# Altium integrated library TI Data Converters Digital to Analog Converter.IntLib: 1533 symbols (part 52 of 99)
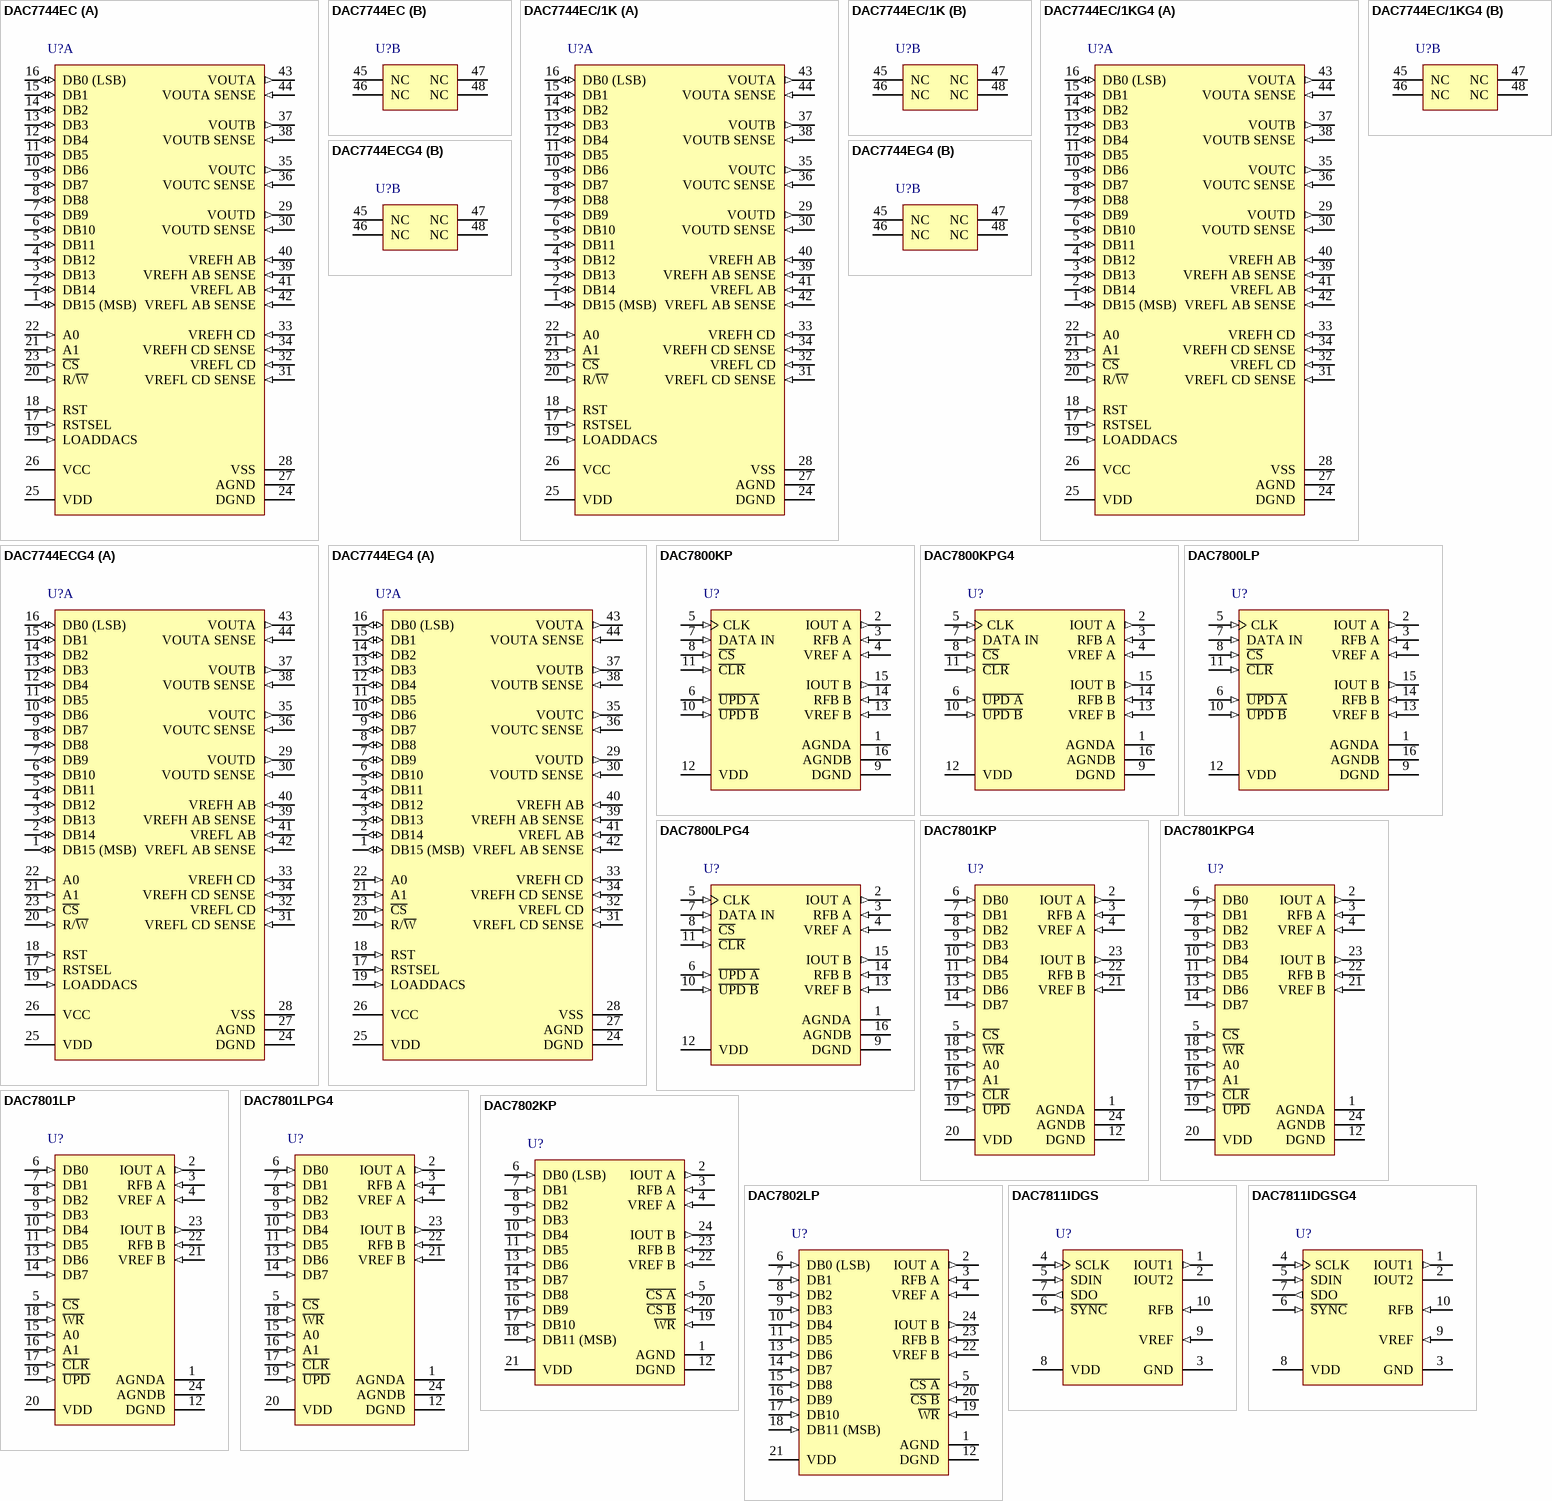
[diagram p124: symbols DAC7744EC to DAC7811IDGSG4]

## DAC7744ECG4
designator U?
16-Bit, Quad Voltage Output DAC, -40 to 85 degC, 48-pin SOP (DL48), Green (RoHS & no Sb/Br); Manufacturer: Texas Instruments; PartNumber: DAC7744ECG4; DAC Channels: 4; DNL(Max)(+/-LSB): 1; INL(Max)(+/-LSB): 2; Interface: Parallel; Resolution(Bits): 16; Settling Time(us): 10; SubFamily: Precision DAC (=<10MSPS); DatasheetVersion: SBAS120; PackageVersion: 4040048/E, 12/2001; PackageReference: DL48; PackageDescription: 48-Pin Plastic Small Outline, Body 7.49 x 15.88 mm, Pitch 0.635 mm; Supplier 1: Digi-Key; Supplier Part Number 1: DAC7744ECG4-ND; Supplier 2: Mouser; Supplier Part Number 2: 595-DAC7744ECG4; Eco-Plan: Green (RoHS & no Sb/Br); Mounting Technology: Surface Mount; Code_JEDEC: MO-118; ComponentLink1Description: Manufacturer URL; ComponentLink1URL: http://www.ti.com/; ComponentLink2Description: Datasheet; ComponentLink2URL: http://www.ti.com/general/docs/lit/getliterature.tsp?genericPartNumber=DAC7744&fileType=pdf; ComponentLink3Description: Package Specification; ComponentLink3URL: http://www.ti.com/lit/ml/msso001c/msso001c.pdf
footprint TI-DL48_N (SOP, 48-Leads, Body 15.88x7.49mm, Pitch 0.635mm, IPC Medium Density)
footprint TI-DL48_L (SOP, 48-Leads, Body 15.88x7.49mm, Pitch 0.635mm, IPC High Density)
footprint TI-DL48_M (SOP, 48-Leads, Body 15.88x7.49mm, Pitch 0.635mm, IPC Low Density)
part A pins: 1 DB15 (MSB) (io) "Data Bit 15, MSB", 2 DB14 (io) "Data Bit 14", 3 DB13 (io) "Data Bit 13", 4 DB12 (io) "Data Bit 12", 5 DB11 (io) "Data Bit 11", 6 DB10 (io) "Data Bit 10", 7 DB9 (io) "Data Bit 9", 8 DB8 (io) "Data Bit 8", 9 DB7 (io) "Data Bit 7", 10 DB6 (io) "Data Bit 6", 11 DB5 (io) "Data Bit 5", 12 DB4 (io) "Data Bit 4", 13 DB3 (io) "Data Bit 3", 14 DB2 (io) "Data Bit 2", 15 DB1 (io) "Data Bit 1", 16 DB0 (LSB) (io) "Data Bit 0, LSB", 17 RSTSEL (in) "Reset Select. Determines the action of RST. If HIGH, a RST command will set the DAC registers to mid-scale. If LOW, a RST command will set the DAC registers to zero.", 18 RST (in) "Reset, Rising Edge Triggered. Depending on the state of RSTSEL, the DAC registers are set to either mid-scale or zero.", 19 LOADDACS (in) "DAC Output Registers Load Control. Rising edge triggered.", 20 R/~{W} (in) "Enabled by the C\S\, Controls Data Read and Write from the Input Registers.", 21 A1 (in) "Enabled by the C\S\, in Combination With A0 Selects the Individual DAC Input Registers.", 22 A0 (in) "Enabled by the C\S\, in Combination With A1 Selects the Individual DAC Input Registers.", 23 ~{CS} (in) "Chip Select. Active LOW.", 24 DGND (power) "Digital Ground", 25 VDD (power) "Positive Power Supply (digital)", 26 VCC (power) "Positive Power Supply (analog)", 27 AGND (power) "Analog Ground", 28 VSS (power) "Negative Power Supply", 29 VOUTD (out) "DAC D Voltage Output", 30 VOUTD SENSE (in) "DAC D’s Output Amplifier Inverting Input. Used to close the feedback loop at the load.", 31 VREFL CD SENSE (in) "DAC C and D Reference Low Sense Input", 32 VREFL CD (in) "DAC C and D Reference Low Input", 33 VREFH CD (in) "DAC C and D Reference High Input", 34 VREFH CD SENSE (in) "DAC C and D Reference High Sense Input", 35 VOUTC (out) "DAC C Voltage Output", 36 VOUTC SENSE (in) "DAC C’s Output Amplifier Inverting Input. Used to close the feedback loop at the load.", 37 VOUTB (out) "DAC B Voltage Output", 38 VOUTB SENSE (in) "DAC B’s Output Amplifier Inverting Input. Used to close the feedback loop at the load.", 39 VREFH AB SENSE (in) "DAC A and B Reference High Sense Input", 40 VREFH AB (in) "DAC A and B Reference High Input", 41 VREFL AB (in) "DAC A and B Reference Low Input", 42 VREFL AB SENSE (in) "DAC A and B Reference Low Sense Input", 43 VOUTA (out) "DAC A Voltage Output", 44 VOUTA SENSE (in) "DAC A’s Output Amplifier Inverting Input. Used to close the feedback loop at the load."
part B pins: 45 NC "No Connection", 46 NC "No Connection", 47 NC "No Connection", 48 NC "No Connection"

## DAC7744EG4
designator U?
16-Bit, Quad Voltage Output DAC, -40 to 85 degC, 48-pin SOP (DL48), Green (RoHS & no Sb/Br); Manufacturer: Texas Instruments; PartNumber: DAC7744EG4; DAC Channels: 4; DNL(Max)(+/-LSB): 3; Interface: Parallel; Resolution(Bits): 16; Settling Time(us): 10; SubFamily: Precision DAC (=<10MSPS); DatasheetVersion: SBAS120; PackageVersion: 4040048/E, 12/2001; PackageReference: DL48; PackageDescription: 48-Pin Plastic Small Outline, Body 7.49 x 15.88 mm, Pitch 0.635 mm; Supplier 1: Digi-Key; Supplier Part Number 1: DAC7744EG4-ND; Supplier 2: Farnell; Supplier Part Number 2: 1214361; Supplier 3: Mouser; Supplier Part Number 3: 595-DAC7744EG4; Eco-Plan: Green (RoHS & no Sb/Br); INL(Max)(+/-LSB): 3; Mounting Technology: Surface Mount; Code_JEDEC: MO-118; ComponentLink1Description: Manufacturer URL; ComponentLink1URL: http://www.ti.com/; ComponentLink2Description: Datasheet; ComponentLink2URL: http://www.ti.com/general/docs/lit/getliterature.tsp?genericPartNumber=DAC7744&fileType=pdf; ComponentLink3Description: Package Specification; ComponentLink3URL: http://www.ti.com/lit/ml/msso001c/msso001c.pdf
footprint TI-DL48_N (SOP, 48-Leads, Body 15.88x7.49mm, Pitch 0.635mm, IPC Medium Density)
footprint TI-DL48_L (SOP, 48-Leads, Body 15.88x7.49mm, Pitch 0.635mm, IPC High Density)
footprint TI-DL48_M (SOP, 48-Leads, Body 15.88x7.49mm, Pitch 0.635mm, IPC Low Density)
part A pins: 1 DB15 (MSB) (io) "Data Bit 15, MSB", 2 DB14 (io) "Data Bit 14", 3 DB13 (io) "Data Bit 13", 4 DB12 (io) "Data Bit 12", 5 DB11 (io) "Data Bit 11", 6 DB10 (io) "Data Bit 10", 7 DB9 (io) "Data Bit 9", 8 DB8 (io) "Data Bit 8", 9 DB7 (io) "Data Bit 7", 10 DB6 (io) "Data Bit 6", 11 DB5 (io) "Data Bit 5", 12 DB4 (io) "Data Bit 4", 13 DB3 (io) "Data Bit 3", 14 DB2 (io) "Data Bit 2", 15 DB1 (io) "Data Bit 1", 16 DB0 (LSB) (io) "Data Bit 0, LSB", 17 RSTSEL (in) "Reset Select. Determines the action of RST. If HIGH, a RST command will set the DAC registers to mid-scale. If LOW, a RST command will set the DAC registers to zero.", 18 RST (in) "Reset, Rising Edge Triggered. Depending on the state of RSTSEL, the DAC registers are set to either mid-scale or zero.", 19 LOADDACS (in) "DAC Output Registers Load Control. Rising edge triggered.", 20 R/~{W} (in) "Enabled by the C\S\, Controls Data Read and Write from the Input Registers.", 21 A1 (in) "Enabled by the C\S\, in Combination With A0 Selects the Individual DAC Input Registers.", 22 A0 (in) "Enabled by the C\S\, in Combination With A1 Selects the Individual DAC Input Registers.", 23 ~{CS} (in) "Chip Select. Active LOW.", 24 DGND (power) "Digital Ground", 25 VDD (power) "Positive Power Supply (digital)", 26 VCC (power) "Positive Power Supply (analog)", 27 AGND (power) "Analog Ground", 28 VSS (power) "Negative Power Supply", 29 VOUTD (out) "DAC D Voltage Output", 30 VOUTD SENSE (in) "DAC D’s Output Amplifier Inverting Input. Used to close the feedback loop at the load.", 31 VREFL CD SENSE (in) "DAC C and D Reference Low Sense Input", 32 VREFL CD (in) "DAC C and D Reference Low Input", 33 VREFH CD (in) "DAC C and D Reference High Input", 34 VREFH CD SENSE (in) "DAC C and D Reference High Sense Input", 35 VOUTC (out) "DAC C Voltage Output", 36 VOUTC SENSE (in) "DAC C’s Output Amplifier Inverting Input. Used to close the feedback loop at the load.", 37 VOUTB (out) "DAC B Voltage Output", 38 VOUTB SENSE (in) "DAC B’s Output Amplifier Inverting Input. Used to close the feedback loop at the load.", 39 VREFH AB SENSE (in) "DAC A and B Reference High Sense Input", 40 VREFH AB (in) "DAC A and B Reference High Input", 41 VREFL AB (in) "DAC A and B Reference Low Input", 42 VREFL AB SENSE (in) "DAC A and B Reference Low Sense Input", 43 VOUTA (out) "DAC A Voltage Output", 44 VOUTA SENSE (in) "DAC A’s Output Amplifier Inverting Input. Used to close the feedback loop at the load."
part B pins: 45 NC "No Connection", 46 NC "No Connection", 47 NC "No Connection", 48 NC "No Connection"

## DAC7800KP
designator U?
Dual Monolithic CMOS 12-Bit Multiplying DAC, -40 to 85 degC, 16-pin DIP (N16), Green (RoHS & no Sb/Br); Manufacturer: Texas Instruments; PartNumber: DAC7800KP; DAC Channels: 2; DNL(Max)(+/-LSB): 1; Interface: Serial SPI; Resolution(Bits): 12; Settling Time(us): 0.8; SubFamily: Precision DAC (=<10MSPS); DatasheetVersion: SBAS005B; PackageVersion: 4040049/E, 12/2002; PackageReference: N16; PackageDescription: 16-Pin Plastic In-Line, Body 19.305 x 6.35 mm, Pitch 2.54 mm; Supplier 1: Digi-Key; Supplier Part Number 1: 296-33258-5-ND; Supplier 2: Mouser; Supplier Part Number 2: 595-DAC7800KP; Eco-Plan: Green (RoHS & no Sb/Br); INL(Max)(+/-LSB): 1; Power Consumption(Typ)(mW): 1; Mounting Technology: Through Hole; Code_JEDEC: MS-001; ComponentLink1Description: Manufacturer URL; ComponentLink1URL: http://www.ti.com/; ComponentLink2Description: Datasheet; ComponentLink2URL: http://www.ti.com/general/docs/lit/getliterature.tsp?genericPartNumber=DAC7800&fileType=pdf; ComponentLink3Description: Package Specification; ComponentLink3URL: http://www.ti.com/litv/pdf/mpdi002c
footprint TI-N16 (DIP, 16-Leads, Body 19.305x6.35mm, Pitch 2.54mm)
pins: 1 AGNDA (power), 2 IOUT A (out), 3 RFB A (in), 4 VREF A (in), 5 CLK (in), 6 ~{UPD A} (in), 7 DATA IN (in), 8 ~{CS} (in), 9 DGND (power), 10 ~{UPD B} (in), 11 ~{CLR} (in), 12 VDD (power), 13 VREF B (in), 14 RFB B (in), 15 IOUT B (out), 16 AGNDB (power)

## DAC7800KPG4
designator U?
Dual Monolithic CMOS 12-Bit Multiplying DAC, -40 to 85 degC, 16-pin DIP (N16), Green (RoHS & no Sb/Br); Manufacturer: Texas Instruments; PartNumber: DAC7800KPG4; DAC Channels: 2; DNL(Max)(+/-LSB): 1; Interface: Serial SPI; Resolution(Bits): 12; Settling Time(us): 0.8; SubFamily: Precision DAC (=<10MSPS); DatasheetVersion: SBAS005B; PackageVersion: 4040049/E, 12/2002; PackageReference: N16; PackageDescription: 16-Pin Plastic In-Line, Body 19.305 x 6.35 mm, Pitch 2.54 mm; Supplier 1: Digi-Key; Supplier Part Number 1: DAC7800KPG4-ND; Supplier 2: Newark; Supplier Part Number 2: 20M5083; Supplier 3: Mouser; Supplier Part Number 3: 595-DAC7800KPG4; Eco-Plan: Green (RoHS & no Sb/Br); INL(Max)(+/-LSB): 1; Power Consumption(Typ)(mW): 1; Mounting Technology: Through Hole; Code_JEDEC: MS-001; ComponentLink1Description: Manufacturer URL; ComponentLink1URL: http://www.ti.com/; ComponentLink2Description: Datasheet; ComponentLink2URL: http://www.ti.com/general/docs/lit/getliterature.tsp?genericPartNumber=DAC7800&fileType=pdf; ComponentLink3Description: Package Specification; ComponentLink3URL: http://www.ti.com/litv/pdf/mpdi002c
footprint TI-N16 (DIP, 16-Leads, Body 19.305x6.35mm, Pitch 2.54mm)
pins: 1 AGNDA (power), 2 IOUT A (out), 3 RFB A (in), 4 VREF A (in), 5 CLK (in), 6 ~{UPD A} (in), 7 DATA IN (in), 8 ~{CS} (in), 9 DGND (power), 10 ~{UPD B} (in), 11 ~{CLR} (in), 12 VDD (power), 13 VREF B (in), 14 RFB B (in), 15 IOUT B (out), 16 AGNDB (power)

## DAC7800LP
designator U?
Dual Monolithic CMOS 12-Bit Multiplying DAC, -40 to 85 degC, 16-pin DIP (N16), Green (RoHS & no Sb/Br); Manufacturer: Texas Instruments; PartNumber: DAC7800LP; DAC Channels: 2; DNL(Max)(+/-LSB): 1; INL(Max)(+/-LSB): 0.5; Interface: Serial SPI; Resolution(Bits): 12; Settling Time(us): 0.8; SubFamily: Precision DAC (=<10MSPS); DatasheetVersion: SBAS005B; PackageVersion: 4040049/E, 12/2002; PackageReference: N16; PackageDescription: 16-Pin Plastic In-Line, Body 19.305 x 6.35 mm, Pitch 2.54 mm; Supplier 1: Digi-Key; Supplier Part Number 1: 296-33259-5-ND; Supplier 2: Mouser; Supplier Part Number 2: 595-DAC7800LP; Eco-Plan: Green (RoHS & no Sb/Br); Power Consumption(Typ)(mW): 1; Mounting Technology: Through Hole; Code_JEDEC: MS-001; ComponentLink1Description: Manufacturer URL; ComponentLink1URL: http://www.ti.com/; ComponentLink2Description: Datasheet; ComponentLink2URL: http://www.ti.com/general/docs/lit/getliterature.tsp?genericPartNumber=DAC7800&fileType=pdf; ComponentLink3Description: Package Specification; ComponentLink3URL: http://www.ti.com/litv/pdf/mpdi002c
footprint TI-N16 (DIP, 16-Leads, Body 19.305x6.35mm, Pitch 2.54mm)
pins: 1 AGNDA (power), 2 IOUT A (out), 3 RFB A (in), 4 VREF A (in), 5 CLK (in), 6 ~{UPD A} (in), 7 DATA IN (in), 8 ~{CS} (in), 9 DGND (power), 10 ~{UPD B} (in), 11 ~{CLR} (in), 12 VDD (power), 13 VREF B (in), 14 RFB B (in), 15 IOUT B (out), 16 AGNDB (power)

## DAC7800LPG4
designator U?
Dual Monolithic CMOS 12-Bit Multiplying DAC, -40 to 85 degC, 16-pin DIP (N16), Green (RoHS & no Sb/Br); Manufacturer: Texas Instruments; PartNumber: DAC7800LPG4; DAC Channels: 2; DNL(Max)(+/-LSB): 1; INL(Max)(+/-LSB): 0.5; Interface: Serial SPI; Resolution(Bits): 12; Settling Time(us): 0.8; SubFamily: Precision DAC (=<10MSPS); DatasheetVersion: SBAS005B; PackageVersion: 4040049/E, 12/2002; PackageReference: N16; PackageDescription: 16-Pin Plastic In-Line, Body 19.305 x 6.35 mm, Pitch 2.54 mm; Supplier 1: Digi-Key; Supplier Part Number 1: DAC7800LPG4-ND; Supplier 2: Newark; Supplier Part Number 2: 99K1851; Supplier 3: Mouser; Supplier Part Number 3: 595-DAC7800LPG4; Eco-Plan: Green (RoHS & no Sb/Br); Power Consumption(Typ)(mW): 1; Mounting Technology: Through Hole; Code_JEDEC: MS-001; ComponentLink1Description: Manufacturer URL; ComponentLink1URL: http://www.ti.com/; ComponentLink2Description: Datasheet; ComponentLink2URL: http://www.ti.com/general/docs/lit/getliterature.tsp?genericPartNumber=DAC7800&fileType=pdf; ComponentLink3Description: Package Specification; ComponentLink3URL: http://www.ti.com/litv/pdf/mpdi002c
footprint TI-N16 (DIP, 16-Leads, Body 19.305x6.35mm, Pitch 2.54mm)
pins: 1 AGNDA (power), 2 IOUT A (out), 3 RFB A (in), 4 VREF A (in), 5 CLK (in), 6 ~{UPD A} (in), 7 DATA IN (in), 8 ~{CS} (in), 9 DGND (power), 10 ~{UPD B} (in), 11 ~{CLR} (in), 12 VDD (power), 13 VREF B (in), 14 RFB B (in), 15 IOUT B (out), 16 AGNDB (power)

## DAC7801KP
designator U?
Dual Monolithic CMOS 12-Bit Multiplying DAC, -40 to 85 degC, 24-pin DIP (NT24), Green (RoHS & no Sb/Br); Manufacturer: Texas Instruments; PartNumber: DAC7801KP; DAC Channels: 2; DNL(Max)(+/-LSB): 1; Interface: Parallel; Resolution(Bits): 12; Settling Time(us): 0.8; SubFamily: Precision DAC (=<10MSPS); DatasheetVersion: SBAS005B; PackageVersion: 4040050/C, 04/2009; PackageReference: NT24; PackageDescription: 24-Pin Plastic Dual-In-Line Package, Body 31.64 x 6.73 mm, Pitch 2.54 mm; Supplier 1: Digi-Key; Supplier Part Number 1: DAC7801KP-ND; Supplier 2: Mouser; Supplier Part Number 2: 595-DAC7801KP; Eco-Plan: Green (RoHS & no Sb/Br); INL(Max)(+/-LSB): 1; Power Consumption(Typ)(mW): 1; Mounting Technology: Through Hole; ComponentLink1Description: Manufacturer URL; ComponentLink1URL: http://www.ti.com/; ComponentLink2Description: Datasheet; ComponentLink2URL: http://www.ti.com/general/docs/lit/getliterature.tsp?genericPartNumber=DAC7801&fileType=pdf; ComponentLink3Description: Package Specification; ComponentLink3URL: http://www.ti.com/litv/pdf/mpdi004a
footprint TI-NT24 (DIP, 24-Leads, Body 31.64x6.73mm, Pitch 2.54mm)
pins: 1 AGNDA (power), 2 IOUT A (out), 3 RFB A (in), 4 VREF A (in), 5 ~{CS} (in), 6 DB0 (in), 7 DB1 (in), 8 DB2 (in), 9 DB3 (in), 10 DB4 (in), 11 DB5 (in), 12 DGND (power), 13 DB6 (in), 14 DB7 (in), 15 A0 (in), 16 A1 (in), 17 ~{CLR} (in), 18 ~{WR} (in), 19 ~{UPD} (in), 20 VDD (power), 21 VREF B (in), 22 RFB B (in), 23 IOUT B (out), 24 AGNDB (power)

## DAC7801KPG4
designator U?
Dual Monolithic CMOS 12-Bit Multiplying DAC, -40 to 85 degC, 24-pin DIP (NT24), Green (RoHS & no Sb/Br); Manufacturer: Texas Instruments; PartNumber: DAC7801KPG4; DAC Channels: 2; DNL(Max)(+/-LSB): 1; Interface: Parallel; Resolution(Bits): 12; Settling Time(us): 0.8; SubFamily: Precision DAC (=<10MSPS); DatasheetVersion: SBAS005B; PackageVersion: 4040050/C, 04/2009; PackageReference: NT24; PackageDescription: 24-Pin Plastic Dual-In-Line Package, Body 31.64 x 6.73 mm, Pitch 2.54 mm; Supplier 1: Digi-Key; Supplier Part Number 1: DAC7801KPG4-ND; Supplier 2: Newark; Supplier Part Number 2: 03M7554; Supplier 3: Mouser; Supplier Part Number 3: 595-DAC7801KPG4; Eco-Plan: Green (RoHS & no Sb/Br); INL(Max)(+/-LSB): 1; Power Consumption(Typ)(mW): 1; Mounting Technology: Through Hole; ComponentLink1Description: Manufacturer URL; ComponentLink1URL: http://www.ti.com/; ComponentLink2Description: Datasheet; ComponentLink2URL: http://www.ti.com/general/docs/lit/getliterature.tsp?genericPartNumber=DAC7801&fileType=pdf; ComponentLink3Description: Package Specification; ComponentLink3URL: http://www.ti.com/litv/pdf/mpdi004a
footprint TI-NT24 (DIP, 24-Leads, Body 31.64x6.73mm, Pitch 2.54mm)
pins: 1 AGNDA (power), 2 IOUT A (out), 3 RFB A (in), 4 VREF A (in), 5 ~{CS} (in), 6 DB0 (in), 7 DB1 (in), 8 DB2 (in), 9 DB3 (in), 10 DB4 (in), 11 DB5 (in), 12 DGND (power), 13 DB6 (in), 14 DB7 (in), 15 A0 (in), 16 A1 (in), 17 ~{CLR} (in), 18 ~{WR} (in), 19 ~{UPD} (in), 20 VDD (power), 21 VREF B (in), 22 RFB B (in), 23 IOUT B (out), 24 AGNDB (power)

## DAC7801LP
designator U?
Dual Monolithic CMOS 12-Bit Multiplying DAC, -40 to 85 degC, 24-pin DIP (NT24), Green (RoHS & no Sb/Br); Manufacturer: Texas Instruments; PartNumber: DAC7801LP; DAC Channels: 2; DNL(Max)(+/-LSB): 1; INL(Max)(+/-LSB): 0.5; Interface: Parallel; Resolution(Bits): 12; Settling Time(us): 0.8; SubFamily: Precision DAC (=<10MSPS); DatasheetVersion: SBAS005B; PackageVersion: 4040050/C, 04/2009; PackageReference: NT24; PackageDescription: 24-Pin Plastic Dual-In-Line Package, Body 31.64 x 6.73 mm, Pitch 2.54 mm; Supplier 1: Digi-Key; Supplier Part Number 1: DAC7801LP-ND; Supplier 2: Mouser; Supplier Part Number 2: 595-DAC7801LP; Eco-Plan: Green (RoHS & no Sb/Br); Power Consumption(Typ)(mW): 1; Mounting Technology: Through Hole; ComponentLink1Description: Manufacturer URL; ComponentLink1URL: http://www.ti.com/; ComponentLink2Description: Datasheet; ComponentLink2URL: http://www.ti.com/general/docs/lit/getliterature.tsp?genericPartNumber=DAC7801&fileType=pdf; ComponentLink3Description: Package Specification; ComponentLink3URL: http://www.ti.com/litv/pdf/mpdi004a
footprint TI-NT24 (DIP, 24-Leads, Body 31.64x6.73mm, Pitch 2.54mm)
pins: 1 AGNDA (power), 2 IOUT A (out), 3 RFB A (in), 4 VREF A (in), 5 ~{CS} (in), 6 DB0 (in), 7 DB1 (in), 8 DB2 (in), 9 DB3 (in), 10 DB4 (in), 11 DB5 (in), 12 DGND (power), 13 DB6 (in), 14 DB7 (in), 15 A0 (in), 16 A1 (in), 17 ~{CLR} (in), 18 ~{WR} (in), 19 ~{UPD} (in), 20 VDD (power), 21 VREF B (in), 22 RFB B (in), 23 IOUT B (out), 24 AGNDB (power)

## DAC7801LPG4
designator U?
Dual Monolithic CMOS 12-Bit Multiplying DAC, -40 to 85 degC, 24-pin DIP (NT24), Green (RoHS & no Sb/Br); Manufacturer: Texas Instruments; PartNumber: DAC7801LPG4; DAC Channels: 2; DNL(Max)(+/-LSB): 1; INL(Max)(+/-LSB): 0.5; Interface: Parallel; Resolution(Bits): 12; Settling Time(us): 0.8; SubFamily: Precision DAC (=<10MSPS); DatasheetVersion: SBAS005B; PackageVersion: 4040050/C, 04/2009; PackageReference: NT24; PackageDescription: 24-Pin Plastic Dual-In-Line Package, Body 31.64 x 6.73 mm, Pitch 2.54 mm; Supplier 1: Digi-Key; Supplier Part Number 1: DAC7801LPG4-ND; Supplier 2: Newark; Supplier Part Number 2: 34P3669; Supplier 3: Mouser; Supplier Part Number 3: 595-DAC7801LPG4; Eco-Plan: Green (RoHS & no Sb/Br); Power Consumption(Typ)(mW): 1; Mounting Technology: Through Hole; ComponentLink1Description: Manufacturer URL; ComponentLink1URL: http://www.ti.com/; ComponentLink2Description: Datasheet; ComponentLink2URL: http://www.ti.com/general/docs/lit/getliterature.tsp?genericPartNumber=DAC7801&fileType=pdf; ComponentLink3Description: Package Specification; ComponentLink3URL: http://www.ti.com/litv/pdf/mpdi004a
footprint TI-NT24 (DIP, 24-Leads, Body 31.64x6.73mm, Pitch 2.54mm)
pins: 1 AGNDA (power), 2 IOUT A (out), 3 RFB A (in), 4 VREF A (in), 5 ~{CS} (in), 6 DB0 (in), 7 DB1 (in), 8 DB2 (in), 9 DB3 (in), 10 DB4 (in), 11 DB5 (in), 12 DGND (power), 13 DB6 (in), 14 DB7 (in), 15 A0 (in), 16 A1 (in), 17 ~{CLR} (in), 18 ~{WR} (in), 19 ~{UPD} (in), 20 VDD (power), 21 VREF B (in), 22 RFB B (in), 23 IOUT B (out), 24 AGNDB (power)

## DAC7802KP
designator U?
Dual Monolithic CMOS 12-Bit Multiplying DAC, -40 to 85 degC, 24-pin DIP (NTG24), Green (RoHS & no Sb/Br); Manufacturer: Texas Instruments; PartNumber: DAC7802KP; DAC Channels: 2; DNL(Max)(+/-LSB): 1; Interface: Parallel; Resolution(Bits): 12; Settling Time(us): 0.8; SubFamily: Precision DAC (=<10MSPS); DatasheetVersion: SBAS005B; PackageVersion: 4202642/C, 04/2008; PackageReference: NTG24; PackageDescription: 24-Pin Plastic Dual-In-Line, Body 30.7 x 6.605 mm, Pitch 2.54 mm; Supplier 1: Digi-Key; Supplier Part Number 1: 296-33260-5-ND; Supplier 2: Farnell; Supplier Part Number 2: 1460240; Supplier 3: Newark; Supplier Part Number 3: 14M8161; Supplier 4: Newark; Supplier Part Number 4: 61M5750; Supplier 5: Mouser; Supplier Part Number 5: 595-DAC7802KP; Eco-Plan: Green (RoHS & no Sb/Br); INL(Max)(+/-LSB): 1; Power Consumption(Typ)(mW): 1; Mounting Technology: Through Hole; ComponentLink1Description: Manufacturer URL; ComponentLink1URL: http://www.ti.com/; ComponentLink2Description: Datasheet; ComponentLink2URL: http://www.ti.com/general/docs/lit/getliterature.tsp?genericPartNumber=DAC7802&fileType=pdf; ComponentLink3Description: Package Specification; ComponentLink3URL: http://www.ti.com/lit/ml/mpdi066b/mpdi066b.pdf
footprint TI-NTG24 (DIP, 24-Leads, Body 30.7x6.605mm, Pitch 2.54mm)
pins: 1 AGND (power), 2 IOUT A (out), 3 RFB A (in), 4 VREF A (in), 5 ~{CS A} (in), 6 DB0 (LSB) (in), 7 DB1 (in), 8 DB2 (in), 9 DB3 (in), 10 DB4 (in), 11 DB5 (in), 12 DGND (power), 13 DB6 (in), 14 DB7 (in), 15 DB8 (in), 16 DB9 (in), 17 DB10 (in), 18 DB11 (MSB) (in), 19 ~{WR} (in), 20 ~{CS B} (in), 21 VDD (power), 22 VREF B (in), 23 RFB B (in), 24 IOUT B (out)

## DAC7802LP
designator U?
Dual Monolithic CMOS 12-Bit Multiplying DAC, -40 to 85 degC, 24-pin DIP (NTG24), Green (RoHS & no Sb/Br); Manufacturer: Texas Instruments; PartNumber: DAC7802LP; DAC Channels: 2; DNL(Max)(+/-LSB): 1; INL(Max)(+/-LSB): 0.5; Interface: Parallel; Resolution(Bits): 12; Settling Time(us): 0.8; SubFamily: Precision DAC (=<10MSPS); DatasheetVersion: SBAS005B; PackageVersion: 4202642/C, 04/2008; PackageReference: NTG24; PackageDescription: 24-Pin Plastic Dual-In-Line, Body 30.7 x 6.605 mm, Pitch 2.54 mm; Supplier 1: Digi-Key; Supplier Part Number 1: DAC7802LP-ND; Supplier 2: Mouser; Supplier Part Number 2: 595-DAC7802LP; Eco-Plan: Green (RoHS & no Sb/Br); Power Consumption(Typ)(mW): 1; Mounting Technology: Through Hole; ComponentLink1Description: Manufacturer URL; ComponentLink1URL: http://www.ti.com/; ComponentLink2Description: Datasheet; ComponentLink2URL: http://www.ti.com/general/docs/lit/getliterature.tsp?genericPartNumber=DAC7802&fileType=pdf; ComponentLink3Description: Package Specification; ComponentLink3URL: http://www.ti.com/lit/ml/mpdi066b/mpdi066b.pdf
footprint TI-NTG24 (DIP, 24-Leads, Body 30.7x6.605mm, Pitch 2.54mm)
pins: 1 AGND (power), 2 IOUT A (out), 3 RFB A (in), 4 VREF A (in), 5 ~{CS A} (in), 6 DB0 (LSB) (in), 7 DB1 (in), 8 DB2 (in), 9 DB3 (in), 10 DB4 (in), 11 DB5 (in), 12 DGND (power), 13 DB6 (in), 14 DB7 (in), 15 DB8 (in), 16 DB9 (in), 17 DB10 (in), 18 DB11 (MSB) (in), 19 ~{WR} (in), 20 ~{CS B} (in), 21 VDD (power), 22 VREF B (in), 23 RFB B (in), 24 IOUT B (out)

## DAC7811IDGS
designator U?
12-Bit, Serial Input, Multiplying DAC, -40 to 125 degC, 10-pin SOP (DGS10), Green (RoHS & no Sb/Br); Manufacturer: Texas Instruments; PartNumber: DAC7811IDGS; DAC Channels: 1; Interface: Serial SPI; Power Consumption(Typ)(mW): 0.025; Resolution(Bits): 12; Settling Time(us): 0.2; SubFamily: Precision DAC (=<10MSPS); DatasheetVersion: SBAS337C; PackageVersion: 4073272/C, 02/2004; PackageReference: DGS10; PackageDescription: 10-Pin Plastic Small Outline, Body 3 x 3 mm, Pitch 0.5 mm; Supplier 1: Digi-Key; Supplier Part Number 1: 296-33261-5-ND; Supplier 2: Mouser; Supplier Part Number 2: 595-DAC7811IDGS; DNL(Max)(+/-LSB): 1; Eco-Plan: Green (RoHS & no Sb/Br); INL(Max)(+/-LSB): 1; Mounting Technology: Surface Mount; Code_JEDEC: MO-153; ComponentLink1Description: Manufacturer URL; ComponentLink1URL: http://www.ti.com/; ComponentLink2Description: Datasheet; ComponentLink2URL: http://www.ti.com/general/docs/lit/getliterature.tsp?genericPartNumber=DAC7811&fileType=pdf; ComponentLink3Description: Package Specification; ComponentLink3URL: http://www.ti.com/lit/ml/mpds035b/mpds035b.pdf
footprint TI-DGS10_N (SOP, 10-Leads, Body 3x3mm, Pitch 0.5mm, IPC Medium Density)
footprint TI-DGS10_L (SOP, 10-Leads, Body 3x3mm, Pitch 0.5mm, IPC High Density)
footprint TI-DGS10_M (SOP, 10-Leads, Body 3x3mm, Pitch 0.5mm, IPC Low Density)
pins: 1 IOUT1 (out) "DAC Current Output", 2 IOUT2 "DAC Analog Ground. This pin is normally tied to the analog ground of the system.", 3 GND (power) "Ground pin.", 4 SCLK (in) "Serial Clock Input. By default, data is clocked into the input shift register on the falling edge of the serial clock input. Alternatively, by means of the serial control bits, the device may be configured such that data is (See Datasheet)", 5 SDIN (in) "Serial Data Input. Data is clocked into the 16-bit input register on the active edge of the serial clock input. By default, on power-up, data is clocked into the shift register on the falling edge of SCLK. The control bits (See Datasheet)", 6 ~{SYNC} (in) "Active Low Control Input. This is the frame synchronization signal for the input data. When S\Y\N\C\ goes low, it powers on the SCLK and DIN buffers, and the input shift register is enabled. Data is loaded to the shift (See Datasheet)", 7 SDO (out) "Serial Data Output. This allows a number of parts to be daisy-chained. By default, data is clocked into the shift alternate edge to loading data to the shift register. Writing the Readback control word to the shift register (See Datasheet)", 8 VDD (power) "Positive Power Supply Input. These parts can be operated from a supply of 2.7V to 5.5V.", 9 VREF (in) "DAC Reference Voltage Input", 10 RFB (in) "DAC Feedback Resistor pin. Establish voltage output for the DAC by connecting to external amplifier output."

## DAC7811IDGSG4
designator U?
12-Bit, Serial Input, Multiplying DAC, -40 to 125 degC, 10-pin SOP (DGS10), Green (RoHS & no Sb/Br); Manufacturer: Texas Instruments; PartNumber: DAC7811IDGSG4; DAC Channels: 1; Interface: Serial SPI; Power Consumption(Typ)(mW): 0.025; Resolution(Bits): 12; Settling Time(us): 0.2; SubFamily: Precision DAC (=<10MSPS); DatasheetVersion: SBAS337C; PackageVersion: 4073272/C, 02/2004; PackageReference: DGS10; PackageDescription: 10-Pin Plastic Small Outline, Body 3 x 3 mm, Pitch 0.5 mm; Supplier 1: Digi-Key; Supplier Part Number 1: DAC7811IDGSG4-ND; Supplier 2: Newark; Supplier Part Number 2: 99K1855; Supplier 3: Mouser; Supplier Part Number 3: 595-DAC7811IDGSG4; DNL(Max)(+/-LSB): 1; Eco-Plan: Green (RoHS & no Sb/Br); INL(Max)(+/-LSB): 1; Mounting Technology: Surface Mount; Code_JEDEC: MO-153; ComponentLink1Description: Manufacturer URL; ComponentLink1URL: http://www.ti.com/; ComponentLink2Description: Datasheet; ComponentLink2URL: http://www.ti.com/general/docs/lit/getliterature.tsp?genericPartNumber=DAC7811&fileType=pdf; ComponentLink3Description: Package Specification; ComponentLink3URL: http://www.ti.com/lit/ml/mpds035b/mpds035b.pdf
footprint TI-DGS10_N (SOP, 10-Leads, Body 3x3mm, Pitch 0.5mm, IPC Medium Density)
footprint TI-DGS10_L (SOP, 10-Leads, Body 3x3mm, Pitch 0.5mm, IPC High Density)
footprint TI-DGS10_M (SOP, 10-Leads, Body 3x3mm, Pitch 0.5mm, IPC Low Density)
pins: 1 IOUT1 (out) "DAC Current Output", 2 IOUT2 "DAC Analog Ground. This pin is normally tied to the analog ground of the system.", 3 GND (power) "Ground pin.", 4 SCLK (in) "Serial Clock Input. By default, data is clocked into the input shift register on the falling edge of the serial clock input. Alternatively, by means of the serial control bits, the device may be configured such that data is (See Datasheet)", 5 SDIN (in) "Serial Data Input. Data is clocked into the 16-bit input register on the active edge of the serial clock input. By default, on power-up, data is clocked into the shift register on the falling edge of SCLK. The control bits (See Datasheet)", 6 ~{SYNC} (in) "Active Low Control Input. This is the frame synchronization signal for the input data. When S\Y\N\C\ goes low, it powers on the SCLK and DIN buffers, and the input shift register is enabled. Data is loaded to the shift (See Datasheet)", 7 SDO (out) "Serial Data Output. This allows a number of parts to be daisy-chained. By default, data is clocked into the shift alternate edge to loading data to the shift register. Writing the Readback control word to the shift register (See Datasheet)", 8 VDD (power) "Positive Power Supply Input. These parts can be operated from a supply of 2.7V to 5.5V.", 9 VREF (in) "DAC Reference Voltage Input", 10 RFB (in) "DAC Feedback Resistor pin. Establish voltage output for the DAC by connecting to external amplifier output."

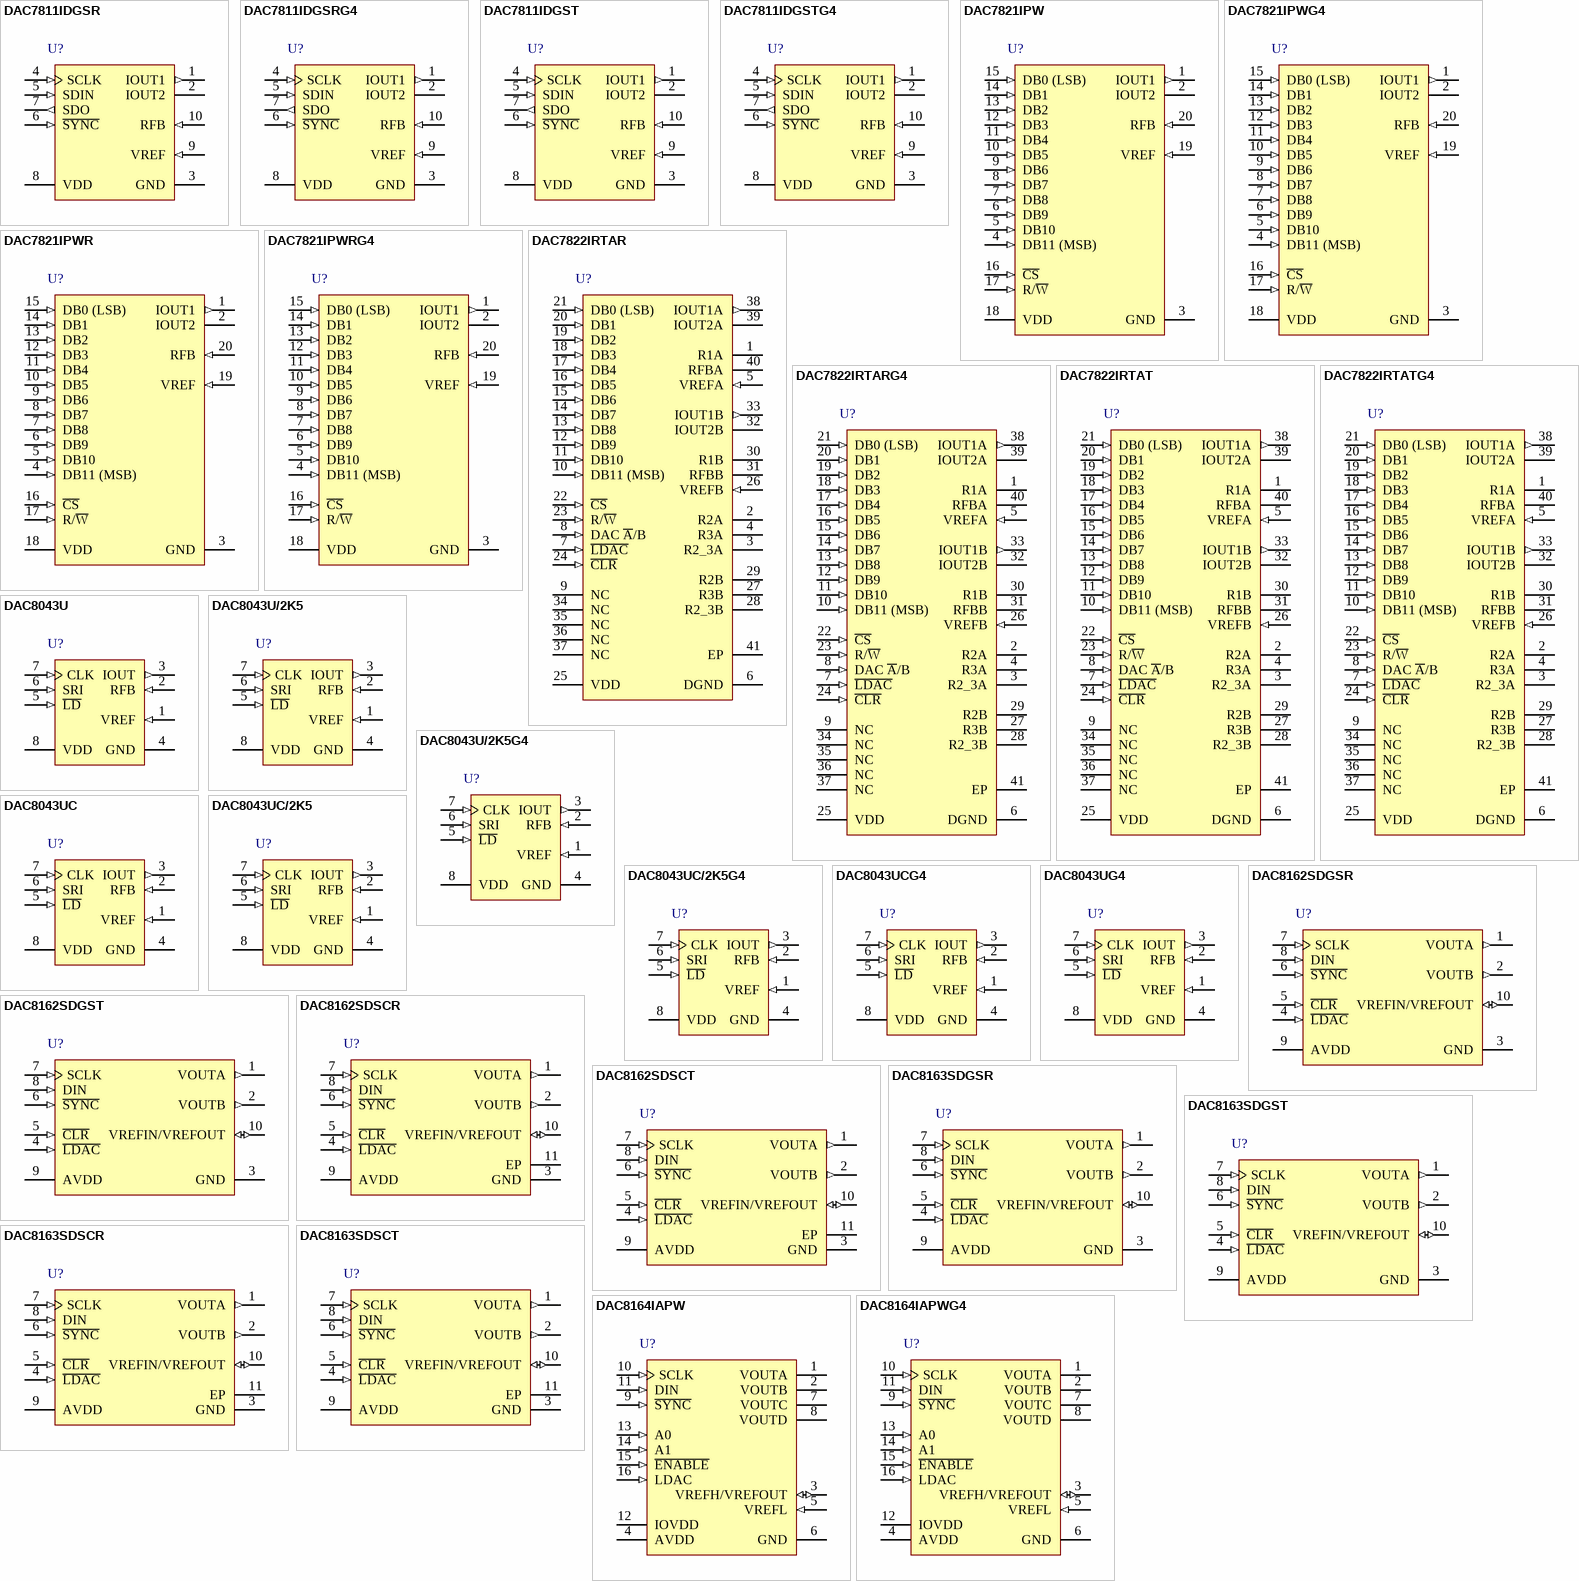
[diagram p42: symbols DAC7811IDGSR to DAC8164IAPWG4]

## DAC7811IDGSR
designator U?
12-Bit, Serial Input, Multiplying DAC, -40 to 125 degC, 10-pin SOP (DGS10), Green (RoHS & no Sb/Br); Manufacturer: Texas Instruments; PartNumber: DAC7811IDGSR; DAC Channels: 1; Interface: Serial SPI; Power Consumption(Typ)(mW): 0.025; Resolution(Bits): 12; Settling Time(us): 0.2; SubFamily: Precision DAC (=<10MSPS); DatasheetVersion: SBAS337C; PackageVersion: 4073272/C, 02/2004; PackageReference: DGS10; PackageDescription: 10-Pin Plastic Small Outline, Body 3 x 3 mm, Pitch 0.5 mm; Supplier 1: Digi-Key; Supplier Part Number 1: 296-19660-2-ND; Supplier 2: Digi-Key; Supplier Part Number 2: 296-19660-1-ND; Supplier 3: Digi-Key; Supplier Part Number 3: 296-19660-6-ND; Supplier 4: Newark; Supplier Part Number 4: 85K0568; Supplier 5: Mouser; Supplier Part Number 5: 595-DAC7811IDGSR; DNL(Max)(+/-LSB): 1; Eco-Plan: Green (RoHS & no Sb/Br); INL(Max)(+/-LSB): 1; Mounting Technology: Surface Mount; Code_JEDEC: MO-153; ComponentLink1Description: Manufacturer URL; ComponentLink1URL: http://www.ti.com/; ComponentLink2Description: Datasheet; ComponentLink2URL: http://www.ti.com/general/docs/lit/getliterature.tsp?genericPartNumber=DAC7811&fileType=pdf; ComponentLink3Description: Package Specification; ComponentLink3URL: http://www.ti.com/lit/ml/mpds035b/mpds035b.pdf
footprint TI-DGS10_N (SOP, 10-Leads, Body 3x3mm, Pitch 0.5mm, IPC Medium Density)
footprint TI-DGS10_L (SOP, 10-Leads, Body 3x3mm, Pitch 0.5mm, IPC High Density)
footprint TI-DGS10_M (SOP, 10-Leads, Body 3x3mm, Pitch 0.5mm, IPC Low Density)
pins: 1 IOUT1 (out) "DAC Current Output", 2 IOUT2 "DAC Analog Ground. This pin is normally tied to the analog ground of the system.", 3 GND (power) "Ground pin.", 4 SCLK (in) "Serial Clock Input. By default, data is clocked into the input shift register on the falling edge of the serial clock input. Alternatively, by means of the serial control bits, the device may be configured such that data is (See Datasheet)", 5 SDIN (in) "Serial Data Input. Data is clocked into the 16-bit input register on the active edge of the serial clock input. By default, on power-up, data is clocked into the shift register on the falling edge of SCLK. The control bits (See Datasheet)", 6 ~{SYNC} (in) "Active Low Control Input. This is the frame synchronization signal for the input data. When S\Y\N\C\ goes low, it powers on the SCLK and DIN buffers, and the input shift register is enabled. Data is loaded to the shift (See Datasheet)", 7 SDO (out) "Serial Data Output. This allows a number of parts to be daisy-chained. By default, data is clocked into the shift alternate edge to loading data to the shift register. Writing the Readback control word to the shift register (See Datasheet)", 8 VDD (power) "Positive Power Supply Input. These parts can be operated from a supply of 2.7V to 5.5V.", 9 VREF (in) "DAC Reference Voltage Input", 10 RFB (in) "DAC Feedback Resistor pin. Establish voltage output for the DAC by connecting to external amplifier output."

## DAC7811IDGSRG4
designator U?
12-Bit, Serial Input, Multiplying DAC, -40 to 125 degC, 10-pin SOP (DGS10), Green (RoHS & no Sb/Br); Manufacturer: Texas Instruments; PartNumber: DAC7811IDGSRG4; DAC Channels: 1; Interface: Serial SPI; Power Consumption(Typ)(mW): 0.025; Resolution(Bits): 12; Settling Time(us): 0.2; SubFamily: Precision DAC (=<10MSPS); DatasheetVersion: SBAS337C; PackageVersion: 4073272/C, 02/2004; PackageReference: DGS10; PackageDescription: 10-Pin Plastic Small Outline, Body 3 x 3 mm, Pitch 0.5 mm; Supplier 1: Digi-Key; Supplier Part Number 1: DAC7811IDGSRG4-ND; Supplier 2: Newark; Supplier Part Number 2: 85K0569; Supplier 3: Mouser; Supplier Part Number 3: 595-DAC7811IDGSRG4; DNL(Max)(+/-LSB): 1; Eco-Plan: Green (RoHS & no Sb/Br); INL(Max)(+/-LSB): 1; Mounting Technology: Surface Mount; Code_JEDEC: MO-153; ComponentLink1Description: Manufacturer URL; ComponentLink1URL: http://www.ti.com/; ComponentLink2Description: Datasheet; ComponentLink2URL: http://www.ti.com/general/docs/lit/getliterature.tsp?genericPartNumber=DAC7811&fileType=pdf; ComponentLink3Description: Package Specification; ComponentLink3URL: http://www.ti.com/lit/ml/mpds035b/mpds035b.pdf
footprint TI-DGS10_N (SOP, 10-Leads, Body 3x3mm, Pitch 0.5mm, IPC Medium Density)
footprint TI-DGS10_L (SOP, 10-Leads, Body 3x3mm, Pitch 0.5mm, IPC High Density)
footprint TI-DGS10_M (SOP, 10-Leads, Body 3x3mm, Pitch 0.5mm, IPC Low Density)
pins: 1 IOUT1 (out) "DAC Current Output", 2 IOUT2 "DAC Analog Ground. This pin is normally tied to the analog ground of the system.", 3 GND (power) "Ground pin.", 4 SCLK (in) "Serial Clock Input. By default, data is clocked into the input shift register on the falling edge of the serial clock input. Alternatively, by means of the serial control bits, the device may be configured such that data is (See Datasheet)", 5 SDIN (in) "Serial Data Input. Data is clocked into the 16-bit input register on the active edge of the serial clock input. By default, on power-up, data is clocked into the shift register on the falling edge of SCLK. The control bits (See Datasheet)", 6 ~{SYNC} (in) "Active Low Control Input. This is the frame synchronization signal for the input data. When S\Y\N\C\ goes low, it powers on the SCLK and DIN buffers, and the input shift register is enabled. Data is loaded to the shift (See Datasheet)", 7 SDO (out) "Serial Data Output. This allows a number of parts to be daisy-chained. By default, data is clocked into the shift alternate edge to loading data to the shift register. Writing the Readback control word to the shift register (See Datasheet)", 8 VDD (power) "Positive Power Supply Input. These parts can be operated from a supply of 2.7V to 5.5V.", 9 VREF (in) "DAC Reference Voltage Input", 10 RFB (in) "DAC Feedback Resistor pin. Establish voltage output for the DAC by connecting to external amplifier output."

## DAC7811IDGST
designator U?
12-Bit, Serial Input, Multiplying DAC, -40 to 125 degC, 10-pin SOP (DGS10), Green (RoHS & no Sb/Br); Manufacturer: Texas Instruments; PartNumber: DAC7811IDGST; DAC Channels: 1; Interface: Serial SPI; Power Consumption(Typ)(mW): 0.025; Resolution(Bits): 12; Settling Time(us): 0.2; SubFamily: Precision DAC (=<10MSPS); DatasheetVersion: SBAS337C; PackageVersion: 4073272/C, 02/2004; PackageReference: DGS10; PackageDescription: 10-Pin Plastic Small Outline, Body 3 x 3 mm, Pitch 0.5 mm; Supplier 1: Digi-Key; Supplier Part Number 1: DAC7811IDGST-ND; Supplier 2: Mouser; Supplier Part Number 2: 595-DAC7811IDGST; DNL(Max)(+/-LSB): 1; Eco-Plan: Green (RoHS & no Sb/Br); INL(Max)(+/-LSB): 1; Mounting Technology: Surface Mount; Code_JEDEC: MO-153; ComponentLink1Description: Manufacturer URL; ComponentLink1URL: http://www.ti.com/; ComponentLink2Description: Datasheet; ComponentLink2URL: http://www.ti.com/general/docs/lit/getliterature.tsp?genericPartNumber=DAC7811&fileType=pdf; ComponentLink3Description: Package Specification; ComponentLink3URL: http://www.ti.com/lit/ml/mpds035b/mpds035b.pdf
footprint TI-DGS10_N (SOP, 10-Leads, Body 3x3mm, Pitch 0.5mm, IPC Medium Density)
footprint TI-DGS10_L (SOP, 10-Leads, Body 3x3mm, Pitch 0.5mm, IPC High Density)
footprint TI-DGS10_M (SOP, 10-Leads, Body 3x3mm, Pitch 0.5mm, IPC Low Density)
pins: 1 IOUT1 (out) "DAC Current Output", 2 IOUT2 "DAC Analog Ground. This pin is normally tied to the analog ground of the system.", 3 GND (power) "Ground pin.", 4 SCLK (in) "Serial Clock Input. By default, data is clocked into the input shift register on the falling edge of the serial clock input. Alternatively, by means of the serial control bits, the device may be configured such that data is (See Datasheet)", 5 SDIN (in) "Serial Data Input. Data is clocked into the 16-bit input register on the active edge of the serial clock input. By default, on power-up, data is clocked into the shift register on the falling edge of SCLK. The control bits (See Datasheet)", 6 ~{SYNC} (in) "Active Low Control Input. This is the frame synchronization signal for the input data. When S\Y\N\C\ goes low, it powers on the SCLK and DIN buffers, and the input shift register is enabled. Data is loaded to the shift (See Datasheet)", 7 SDO (out) "Serial Data Output. This allows a number of parts to be daisy-chained. By default, data is clocked into the shift alternate edge to loading data to the shift register. Writing the Readback control word to the shift register (See Datasheet)", 8 VDD (power) "Positive Power Supply Input. These parts can be operated from a supply of 2.7V to 5.5V.", 9 VREF (in) "DAC Reference Voltage Input", 10 RFB (in) "DAC Feedback Resistor pin. Establish voltage output for the DAC by connecting to external amplifier output."

## DAC7811IDGSTG4
designator U?
12-Bit, Serial Input, Multiplying DAC, -40 to 125 degC, 10-pin SOP (DGS10), Green (RoHS & no Sb/Br); Manufacturer: Texas Instruments; PartNumber: DAC7811IDGSTG4; DAC Channels: 1; Interface: Serial SPI; Power Consumption(Typ)(mW): 0.025; Resolution(Bits): 12; Settling Time(us): 0.2; SubFamily: Precision DAC (=<10MSPS); DatasheetVersion: SBAS337C; PackageVersion: 4073272/C, 02/2004; PackageReference: DGS10; PackageDescription: 10-Pin Plastic Small Outline, Body 3 x 3 mm, Pitch 0.5 mm; Supplier 1: Digi-Key; Supplier Part Number 1: DAC7811IDGSTG4-ND; Supplier 2: Mouser; Supplier Part Number 2: 595-DAC7811IDGSTG4; DNL(Max)(+/-LSB): 1; Eco-Plan: Green (RoHS & no Sb/Br); INL(Max)(+/-LSB): 1; Mounting Technology: Surface Mount; Code_JEDEC: MO-153; ComponentLink1Description: Manufacturer URL; ComponentLink1URL: http://www.ti.com/; ComponentLink2Description: Datasheet; ComponentLink2URL: http://www.ti.com/general/docs/lit/getliterature.tsp?genericPartNumber=DAC7811&fileType=pdf; ComponentLink3Description: Package Specification; ComponentLink3URL: http://www.ti.com/lit/ml/mpds035b/mpds035b.pdf
footprint TI-DGS10_N (SOP, 10-Leads, Body 3x3mm, Pitch 0.5mm, IPC Medium Density)
footprint TI-DGS10_L (SOP, 10-Leads, Body 3x3mm, Pitch 0.5mm, IPC High Density)
footprint TI-DGS10_M (SOP, 10-Leads, Body 3x3mm, Pitch 0.5mm, IPC Low Density)
pins: 1 IOUT1 (out) "DAC Current Output", 2 IOUT2 "DAC Analog Ground. This pin is normally tied to the analog ground of the system.", 3 GND (power) "Ground pin.", 4 SCLK (in) "Serial Clock Input. By default, data is clocked into the input shift register on the falling edge of the serial clock input. Alternatively, by means of the serial control bits, the device may be configured such that data is (See Datasheet)", 5 SDIN (in) "Serial Data Input. Data is clocked into the 16-bit input register on the active edge of the serial clock input. By default, on power-up, data is clocked into the shift register on the falling edge of SCLK. The control bits (See Datasheet)", 6 ~{SYNC} (in) "Active Low Control Input. This is the frame synchronization signal for the input data. When S\Y\N\C\ goes low, it powers on the SCLK and DIN buffers, and the input shift register is enabled. Data is loaded to the shift (See Datasheet)", 7 SDO (out) "Serial Data Output. This allows a number of parts to be daisy-chained. By default, data is clocked into the shift alternate edge to loading data to the shift register. Writing the Readback control word to the shift register (See Datasheet)", 8 VDD (power) "Positive Power Supply Input. These parts can be operated from a supply of 2.7V to 5.5V.", 9 VREF (in) "DAC Reference Voltage Input", 10 RFB (in) "DAC Feedback Resistor pin. Establish voltage output for the DAC by connecting to external amplifier output."

## DAC7821IPW
designator U?
12-Bit, Parallel Input, Multiplying DAC, -40 to 125 degC, 20-pin SOP (PW20), Green (RoHS & no Sb/Br); Manufacturer: Texas Instruments; PartNumber: DAC7821IPW; DAC Channels: 1; Power Consumption(Typ)(mW): 0.0275; Resolution(Bits): 12; Settling Time(us): 0.2; SubFamily: Precision DAC (=<10MSPS); DatasheetVersion: SBAS365B; PackageVersion: 4040064-5/G, 02/2011; PackageReference: PW20; PackageDescription: 20-Pin Plastic Small Outline, Body 6.5 x 4.4 mm, Pitch 0.65 mm; Supplier 1: Digi-Key; Supplier Part Number 1: 296-19540-5-ND; Supplier 2: Newark; Supplier Part Number 2: 80K1419; Supplier 3: Mouser; Supplier Part Number 3: 595-DAC7821IPW; DNL(Max)(+/-LSB): 1; Eco-Plan: Green (RoHS & no Sb/Br); INL(Max)(+/-LSB): 1; Interface: Parallel; Mounting Technology: Surface Mount; Code_JEDEC: MO-153; ComponentLink1Description: Manufacturer URL; ComponentLink1URL: http://www.ti.com/; ComponentLink2Description: Datasheet; ComponentLink2URL: http://www.ti.com/general/docs/lit/getliterature.tsp?genericPartNumber=DAC7821&fileType=pdf; ComponentLink3Description: Package Specification; ComponentLink3URL: http://www.ti.com.cn/cn/lit/ml/mpds362/mpds362.pdf
footprint TI-PW20_N (SOP, 20-Leads, Body 6.5x4.4mm, Pitch 0.65mm, IPC Medium Density)
footprint TI-PW20_L (SOP, 20-Leads, Body 6.5x4.4mm, Pitch 0.65mm, IPC High Density)
footprint TI-PW20_M (SOP, 20-Leads, Body 6.5x4.4mm, Pitch 0.65mm, IPC Low Density)
pins: 1 IOUT1 (out) "DAC current output", 2 IOUT2 "DAC analog ground. This pin is normally tied to the analog ground of the system", 3 GND (power) "Ground pin.", 4 DB11 (MSB) (in) "Parallel data bits 11 to 0.", 5 DB10 (in) "Parallel data bits 11 to 0.", 6 DB9 (in) "Parallel data bits 11 to 0.", 7 DB8 (in) "Parallel data bits 11 to 0.", 8 DB7 (in) "Parallel data bits 11 to 0.", 9 DB6 (in) "Parallel data bits 11 to 0.", 10 DB5 (in) "Parallel data bits 11 to 0.", 11 DB4 (in) "Parallel data bits 11 to 0.", 12 DB3 (in) "Parallel data bits 11 to 0.", 13 DB2 (in) "Parallel data bits 11 to 0.", 14 DB1 (in) "Parallel data bits 11 to 0.", 15 DB0 (LSB) (in) "Parallel data bits 11 to 0.", 16 ~{CS} (in) "Chip select input. Active low. Used in conjunction with R/W\ to load parallel data to the input latch or read data from the DAC register. Rising edge of C\S\ loads data.", 17 R/~{W} (in) "Read/Write. When low, use in conjunction with C\S\ to load parallel data. When high, use with C\S\ to read back contents of DAC register.", 18 VDD (power) "Positive power supply input. These parts can be operated from a supply of 2.5V to 5.5V.", 19 VREF (in) "DAC reference voltage input", 20 RFB (in) "DAC feedback resistor pin. Establish voltage output for the DAC by connecting to external amplifier output."

## DAC7821IPWG4
designator U?
12-Bit, Parallel Input, Multiplying DAC, -40 to 125 degC, 20-pin SOP (PW20), Green (RoHS & no Sb/Br); Manufacturer: Texas Instruments; PartNumber: DAC7821IPWG4; DAC Channels: 1; Power Consumption(Typ)(mW): 0.0275; Resolution(Bits): 12; Settling Time(us): 0.2; SubFamily: Precision DAC (=<10MSPS); DatasheetVersion: SBAS365B; PackageVersion: 4040064-5/G, 02/2011; PackageReference: PW20; PackageDescription: 20-Pin Plastic Small Outline, Body 6.5 x 4.4 mm, Pitch 0.65 mm; Supplier 1: Digi-Key; Supplier Part Number 1: DAC7821IPWG4-ND; Supplier 2: Mouser; Supplier Part Number 2: 595-DAC7821IPWG4; DNL(Max)(+/-LSB): 1; Eco-Plan: Green (RoHS & no Sb/Br); INL(Max)(+/-LSB): 1; Interface: Parallel; Mounting Technology: Surface Mount; Code_JEDEC: MO-153; ComponentLink1Description: Manufacturer URL; ComponentLink1URL: http://www.ti.com/; ComponentLink2Description: Datasheet; ComponentLink2URL: http://www.ti.com/general/docs/lit/getliterature.tsp?genericPartNumber=DAC7821&fileType=pdf; ComponentLink3Description: Package Specification; ComponentLink3URL: http://www.ti.com.cn/cn/lit/ml/mpds362/mpds362.pdf
footprint TI-PW20_N (SOP, 20-Leads, Body 6.5x4.4mm, Pitch 0.65mm, IPC Medium Density)
footprint TI-PW20_L (SOP, 20-Leads, Body 6.5x4.4mm, Pitch 0.65mm, IPC High Density)
footprint TI-PW20_M (SOP, 20-Leads, Body 6.5x4.4mm, Pitch 0.65mm, IPC Low Density)
pins: 1 IOUT1 (out) "DAC current output", 2 IOUT2 "DAC analog ground. This pin is normally tied to the analog ground of the system", 3 GND (power) "Ground pin.", 4 DB11 (MSB) (in) "Parallel data bits 11 to 0.", 5 DB10 (in) "Parallel data bits 11 to 0.", 6 DB9 (in) "Parallel data bits 11 to 0.", 7 DB8 (in) "Parallel data bits 11 to 0.", 8 DB7 (in) "Parallel data bits 11 to 0.", 9 DB6 (in) "Parallel data bits 11 to 0.", 10 DB5 (in) "Parallel data bits 11 to 0.", 11 DB4 (in) "Parallel data bits 11 to 0.", 12 DB3 (in) "Parallel data bits 11 to 0.", 13 DB2 (in) "Parallel data bits 11 to 0.", 14 DB1 (in) "Parallel data bits 11 to 0.", 15 DB0 (LSB) (in) "Parallel data bits 11 to 0.", 16 ~{CS} (in) "Chip select input. Active low. Used in conjunction with R/W\ to load parallel data to the input latch or read data from the DAC register. Rising edge of C\S\ loads data.", 17 R/~{W} (in) "Read/Write. When low, use in conjunction with C\S\ to load parallel data. When high, use with C\S\ to read back contents of DAC register.", 18 VDD (power) "Positive power supply input. These parts can be operated from a supply of 2.5V to 5.5V.", 19 VREF (in) "DAC reference voltage input", 20 RFB (in) "DAC feedback resistor pin. Establish voltage output for the DAC by connecting to external amplifier output."

## DAC7821IPWR
designator U?
12-Bit, Parallel Input, Multiplying DAC, -40 to 125 degC, 20-pin SOP (PW20), Green (RoHS & no Sb/Br); Manufacturer: Texas Instruments; PartNumber: DAC7821IPWR; DAC Channels: 1; Power Consumption(Typ)(mW): 0.0275; Resolution(Bits): 12; Settling Time(us): 0.2; SubFamily: Precision DAC (=<10MSPS); DatasheetVersion: SBAS365B; PackageVersion: 4040064-5/G, 02/2011; PackageReference: PW20; PackageDescription: 20-Pin Plastic Small Outline, Body 6.5 x 4.4 mm, Pitch 0.65 mm; Supplier 1: Digi-Key; Supplier Part Number 1: DAC7821IPWR-ND; Supplier 2: Newark; Supplier Part Number 2: 80K1420; Supplier 3: Mouser; Supplier Part Number 3: 595-DAC7821IPWR; DNL(Max)(+/-LSB): 1; Eco-Plan: Green (RoHS & no Sb/Br); INL(Max)(+/-LSB): 1; Interface: Parallel; Mounting Technology: Surface Mount; Code_JEDEC: MO-153; ComponentLink1Description: Manufacturer URL; ComponentLink1URL: http://www.ti.com/; ComponentLink2Description: Datasheet; ComponentLink2URL: http://www.ti.com/general/docs/lit/getliterature.tsp?genericPartNumber=DAC7821&fileType=pdf; ComponentLink3Description: Package Specification; ComponentLink3URL: http://www.ti.com.cn/cn/lit/ml/mpds362/mpds362.pdf
footprint TI-PW20_N (SOP, 20-Leads, Body 6.5x4.4mm, Pitch 0.65mm, IPC Medium Density)
footprint TI-PW20_L (SOP, 20-Leads, Body 6.5x4.4mm, Pitch 0.65mm, IPC High Density)
footprint TI-PW20_M (SOP, 20-Leads, Body 6.5x4.4mm, Pitch 0.65mm, IPC Low Density)
pins: 1 IOUT1 (out) "DAC current output", 2 IOUT2 "DAC analog ground. This pin is normally tied to the analog ground of the system", 3 GND (power) "Ground pin.", 4 DB11 (MSB) (in) "Parallel data bits 11 to 0.", 5 DB10 (in) "Parallel data bits 11 to 0.", 6 DB9 (in) "Parallel data bits 11 to 0.", 7 DB8 (in) "Parallel data bits 11 to 0.", 8 DB7 (in) "Parallel data bits 11 to 0.", 9 DB6 (in) "Parallel data bits 11 to 0.", 10 DB5 (in) "Parallel data bits 11 to 0.", 11 DB4 (in) "Parallel data bits 11 to 0.", 12 DB3 (in) "Parallel data bits 11 to 0.", 13 DB2 (in) "Parallel data bits 11 to 0.", 14 DB1 (in) "Parallel data bits 11 to 0.", 15 DB0 (LSB) (in) "Parallel data bits 11 to 0.", 16 ~{CS} (in) "Chip select input. Active low. Used in conjunction with R/W\ to load parallel data to the input latch or read data from the DAC register. Rising edge of C\S\ loads data.", 17 R/~{W} (in) "Read/Write. When low, use in conjunction with C\S\ to load parallel data. When high, use with C\S\ to read back contents of DAC register.", 18 VDD (power) "Positive power supply input. These parts can be operated from a supply of 2.5V to 5.5V.", 19 VREF (in) "DAC reference voltage input", 20 RFB (in) "DAC feedback resistor pin. Establish voltage output for the DAC by connecting to external amplifier output."